# EAGLE library part GPS_MODULE (library pimoroni-ics)
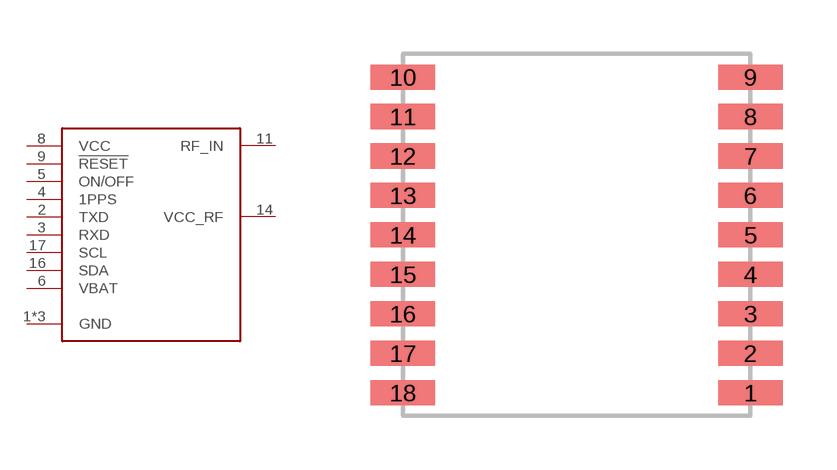
[diagram p69: symbol with the pads of GPS_MODULE; footprint GPS_MODULE]

Designator prefix GPS

## GPS_MODULE  [GPS_MODULE]
1  GND
2  TXD
3  RXD
4  1PPS
5  ON/OFF
6  VBAT
8  VCC
9  !RESET
10  GND
11  RF_IN
12  GND
14  VCC_RF
16  SDA
17  SCL

## Footprint GPS_MODULE (pad centres in mm)
smd 1.8 x 0.7: 1 4.85,-4.4; 2 4.85,-3.3; 3 4.85,-2.2; 4 4.85,-1.1; 5 4.85,0; 6 4.85,1.1; 7 4.85,2.2; 8 4.85,3.3; 9 4.85,4.4; 10 -4.85,4.4; 11 -4.85,3.3; 12 -4.85,2.2; 13 -4.85,1.1; 14 -4.85,0; 15 -4.85,-1.1; 16 -4.85,-2.2; 17 -4.85,-3.3; 18 -4.85,-4.4